# EAGLE library part MICROCD_MAIN (library pepelac)
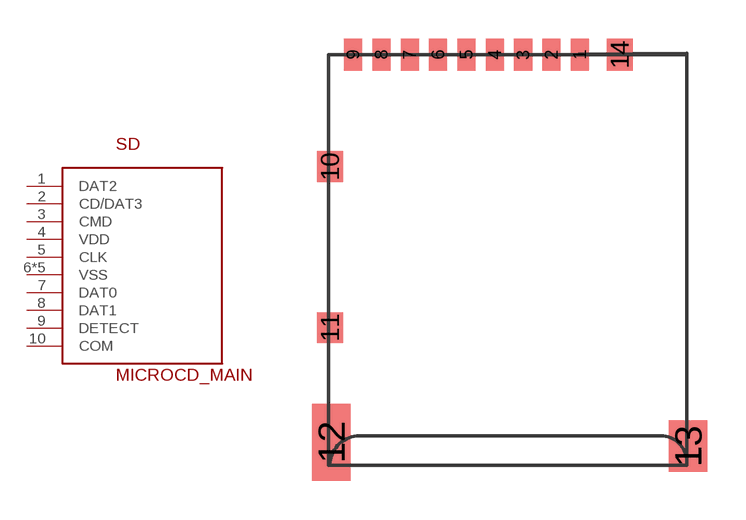
[diagram p11: symbol with the pads of MICROSD_MAIN; footprint MICROSD_MAIN]

Designator prefix SD

## MICROCD_MAIN  [MICROSD_MAIN]
1  DAT2
2  CD/DAT3
3  CMD
4  VDD
5  CLK
6  VSS
7  DAT0
8  DAT1
9  DETECT
10  COM
11  VSS
12  VSS
13  VSS
14  VSS

## Footprint MICROSD_MAIN (pad centres in mm)
smd 0.7 x 1.25: 1 -2.15,5.95; 2 -3.25,5.95; 3 -4.35,5.95; 4 -5.45,5.95; 5 -6.55,5.95; 6 -7.65,5.95; 7 -8.75,5.95; 8 -9.85,5.95; 9 -10.95,5.95
smd 1 x 1.2: 10 -11.85,1.6; 11 -11.85,-4.65
smd 1.5 x 3: 12 -11.8,-9.1
smd 1.5 x 2: 13 2.05,-9.25
smd 1 x 1.25: 14 -0.6,5.95